# Altium footprint library mdriver2_control.PcbLib: 41 footprints (part 3 of 3)
Each footprint in its own frame and in the unit in brackets; x right, y up, seen from the top. Pads: shape width x height; smd on the part's side, far side on the other; paste and mask are expansions set on the pad; w line width, h text height; cw(c..) or ccw(c..) is an arc to the next point about the centre after c.
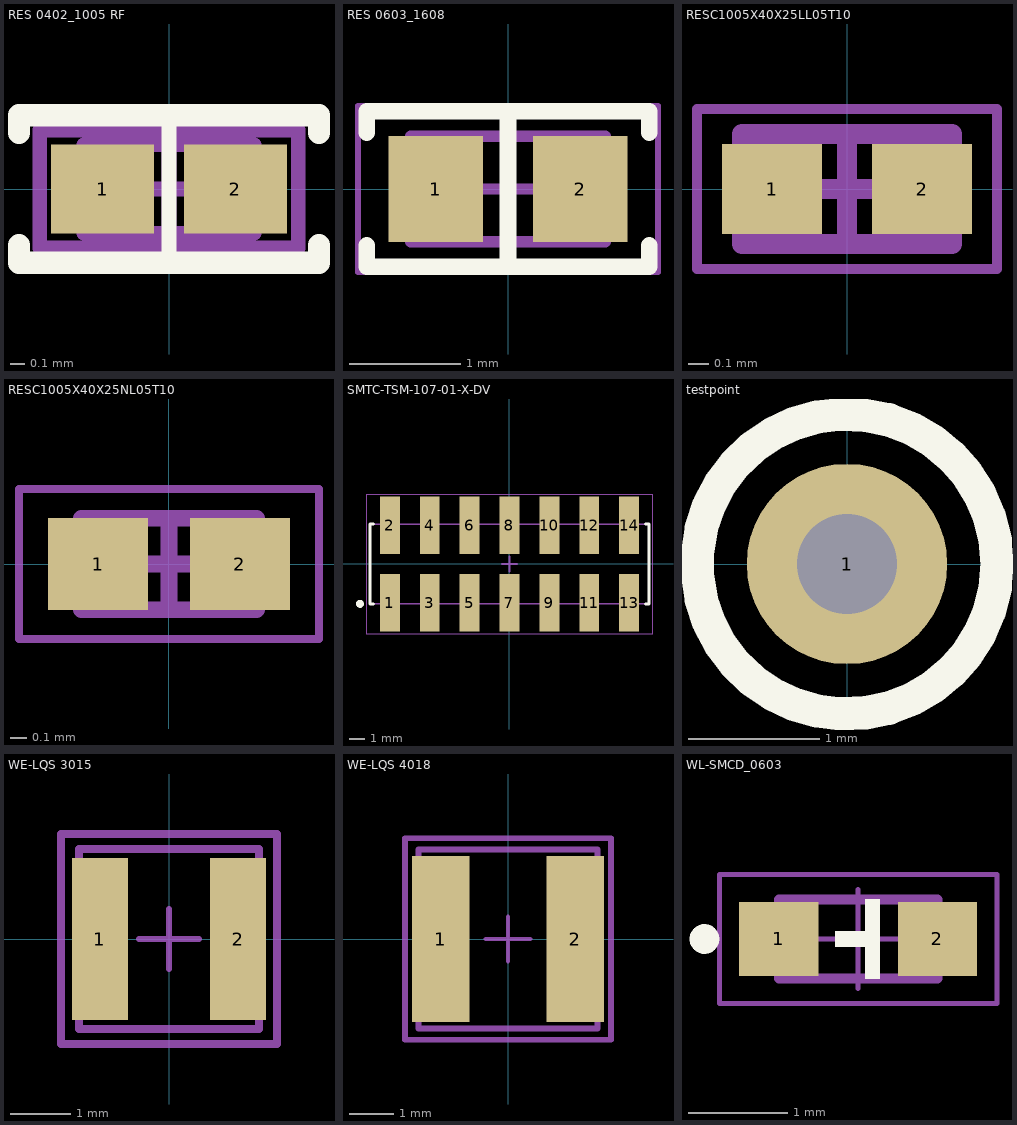
[diagram p2: the footprints below, top view; thin cyan lines are the x and y axes]

## RES 0402_1005 RF [mm] "Chip Resistor, 2-Leads, Body 1.0x0.5mm, IPC High Density"
height 0.4
pads (2):
  rect 0.7x0.6 smd: 1(-0.45,0) 2(0.45,0)
Top Overlay:
  lines w0.1: 0,-0.508 0,0.508
  lines w0.15: -1.016,-0.381 -1.016,-0.5 1.016,-0.5 1.016,-0.381 ; -1.016,0.381 -1.016,0.5 1.016,0.5 1.016,0.381
Mechanical 13:
  lines w0.1: -0.575,-0.3 -0.575,0.3 0.575,0.3 0.575,-0.3 -0.575,-0.3
Mechanical 15:
  lines w0.1: -0.3,0 0.3,0 ; 0,-0.3 0,0.3 ; -0.875,-0.4 -0.875,0.4 0.875,0.4 0.875,-0.4 -0.875,-0.4
3D body "0402 resistor.STEP": height 0.35, standoff 0, extent -0.5,-0.25 0.5,0.25

## RES 0603_1608 [mm] "Chip Resistor, 2-Leads, Body 1.60x0.80mm, IPC Medium Density"
height 0.45
pads (2):
  rect 0.85x0.95 smd: 1(-0.65,0) 2(0.65,0)
Top Overlay:
  lines w0.15: -1.27,-0.508 -1.27,-0.7 1.27,-0.7 1.27,-0.508 ; -1.27,0.508 -1.27,0.7 1.27,0.7 1.27,0.508 ; 0,-0.7 0,0.7
Mechanical 13:
  lines w0.1: -0.875,-0.475 0.875,-0.475 0.875,0.475 -0.875,0.475 -0.875,-0.475
Mechanical 15:
  lines w0.05: -1.35,-0.75 1.35,-0.75 1.35,0.75 -1.35,0.75 -1.35,-0.75
  lines w0.1: -0.475,0 0.475,0 ; 0,-0.475 0,0.475
3D body "0603 resistor.STEP": height 0.45, standoff 0, extent -0.8,-0.4 0.8,0.4

## RESC1005X40X25LL05T10 [mm] "Chip Resistor, 2-Leads, Body 1.00x0.50mm, IPC High Density"
height 0.4
pads (2):
  rect 0.5x0.45 smd: 1(-0.375,0) 2(0.375,0)
Mechanical 13:
  lines w0.1: -0.525,-0.275 0.525,-0.275 0.525,0.275 -0.525,0.275 -0.525,-0.275
Mechanical 15:
  lines w0.05: -0.75,-0.4 0.75,-0.4 0.75,0.4 -0.75,0.4 -0.75,-0.4
  lines w0.1: -0.275,0 0.275,0 ; 0,-0.275 0,0.275
3D body: height 0.4, standoff 0, extent 0.275,-0.275 0.525,0.275
3D body: height 0.4, standoff 0, extent -0.525,-0.275 -0.275,0.275
3D body: height 0.4, standoff 0, extent -0.275,-0.275 0.275,0.275

## RESC1005X40X25NL05T10 [mm] "Chip Resistor, 2-Leads, Body 1.00x0.50mm, IPC Medium Density"
height 0.4
pads (2):
  rect 0.6x0.55 smd: 1(-0.425,0) 2(0.425,0)
Mechanical 13:
  lines w0.1: -0.525,-0.275 0.525,-0.275 0.525,0.275 -0.525,0.275 -0.525,-0.275
Mechanical 15:
  lines w0.05: -0.9,-0.45 0.9,-0.45 0.9,0.45 -0.9,0.45 -0.9,-0.45
  lines w0.1: -0.275,0 0.275,0 ; 0,-0.275 0,0.275
3D body: height 0.4, standoff 0, extent 0.275,-0.275 0.525,0.275
3D body: height 0.4, standoff 0, extent -0.525,-0.275 -0.275,0.275
3D body: height 0.4, standoff 0, extent -0.275,-0.275 0.275,0.275

## SMTC-TSM-107-01-X-DV [mm] "Double Row Gullwing ASM, 2x7 Pins, Vertical, 2.54mm Pitch, Male"
height 9.9
pads (14):
  rect 1.27x3.68 smd: 1(-7.62,-2.475) 2(-7.62,2.475) 3(-5.08,-2.475) 4(-5.08,2.475) 5(-2.54,-2.475) 6(-2.54,2.475) 7(0,-2.475) 8(0,2.475) 9(2.54,-2.475) 10(2.54,2.475) 11(5.08,-2.475) 12(5.08,2.475) 13(7.62,-2.475) 14(7.62,2.475)
Top Overlay:
  circle w0.25: c-9.525,-2.54 r0.125
  lines w0.2: -8.655,-2.54 -8.89,-2.54 -8.89,2.54 -8.655,2.54 ; 8.655,-2.54 8.89,-2.54 8.89,2.54 8.655,2.54
Mechanical 13:
  lines w0.1: -8.89,-2.54 8.89,-2.54 8.89,2.54 -8.89,2.54 -8.89,-2.54
Mechanical 15:
  lines w0.05: -9.115,-4.44 -9.115,4.44 9.115,4.44 9.115,-4.44 -9.115,-4.44
  lines w0.1: -0.5,0 0.5,0 ; 0,-0.5 0,0.5
3D body "TSM-107-01-X-DV.step": height 9.65, standoff 0, extent -8.89,-3.683 8.89,3.683

## testpoint [mil]
height 535.43
pads (1):
  round 60 hole 30: 1(0,0)
Top Overlay:
  circle w10: c0,0 r44.89

## WE-LQS 3015 [mm] "SMD Power Inductor, 2-Leads, Body 3.0x3.0mm"
height 1.5
pads (2):
  rect 0.927x2.7 smd: 1(-1.15,0) 2(1.15,0)
Mechanical 13:
  lines w0.127: -1.5,-1.5 1.5,-1.5 1.5,1.5 -1.5,1.5 -1.5,-1.5
Mechanical 15:
  lines w0.1: -0.5,0 0.5,0 ; 0,-0.5 0,0.5
  lines w0.127: -1.8,-1.75 -1.8,1.75 1.8,1.75 1.8,-1.75 -1.8,-1.75
3D body "LQS_3015.stp": height 1.48, standoff -0.02, extent -1.5,-1.5 1.5,1.5

## WE-LQS 4018 [mm] "SMD Power Inductor, 2-Leads, Body 4.0x4.0mm"
height 1.8
pads (2):
  rect 1.278x3.7 smd: 1(-1.5,0) 2(1.5,0)
Mechanical 13:
  lines w0.127: -2,-2 2,-2 2,2 -2,2 -2,-2
Mechanical 15:
  lines w0.1: -0.5,0 0.5,0 ; 0,-0.5 0,0.5
  lines w0.127: -2.3,-2.25 2.3,-2.25 2.3,2.25 -2.3,2.25 -2.3,-2.25
3D body "LQS_4018.stp": height 1.78, standoff -0.02, extent -2,-2 2,2

## WL-SMCD_0603 [mm] "SMD Mono-color Chip LED, body 1.6x0.8mm"
height 0.4
pads (2):
  rect 0.8x0.75 smd: 1(-1270.8,-1270) 2(-1269.2,-1270)
Top Overlay:
  circle w0.15: c-1271.55,-1270 r0.075
  region: -1269.78,-1269.6 -1269.78,-1270.4 -1269.93,-1270.4 -1269.93,-1270.08 -1270.23,-1270.08 -1270.23,-1269.92 -1269.93,-1269.92 -1269.93,-1269.6
Top Courtyard:
  lines w0.05: -1271.4,-1270.65 -1271.4,-1269.35 -1268.6,-1269.35 -1268.6,-1270.65 -1271.4,-1270.65
Top Designator:
  text ".Designator" at -1272.499,-1270.167 h0.5
Top Component Outline:
  region: -1269.78,-1269.6 -1269.78,-1270.4 -1269.93,-1270.4 -1269.93,-1270.08 -1270.23,-1270.08 -1270.23,-1269.92 -1269.93,-1269.92 -1269.93,-1269.6
  lines w0.1: -1270.8,-1270.4 -1270.8,-1269.6 -1269.2,-1269.6 -1269.2,-1270.4 -1270.8,-1270.4
Top Component Center:
  lines w0.05: -1270.5,-1270 -1269.5,-1270 ; -1270,-1270.5 -1270,-1269.5
3D body "STEP-WL-SMCD-0603-rev1.stp": height 0.42, standoff 0.02, extent -1270.8,-1270.4 -1269.2,-1269.6